# Altium footprint library BQ24617RGET.PcbLib: 1 footprints
Each footprint in its own frame and in the unit in brackets; x right, y up, seen from the top. Pads: shape width x height; smd on the part's side, far side on the other; paste and mask are expansions set on the pad; w line width, h text height; cw(c..) or ccw(c..) is an arc to the next point about the centre after c.
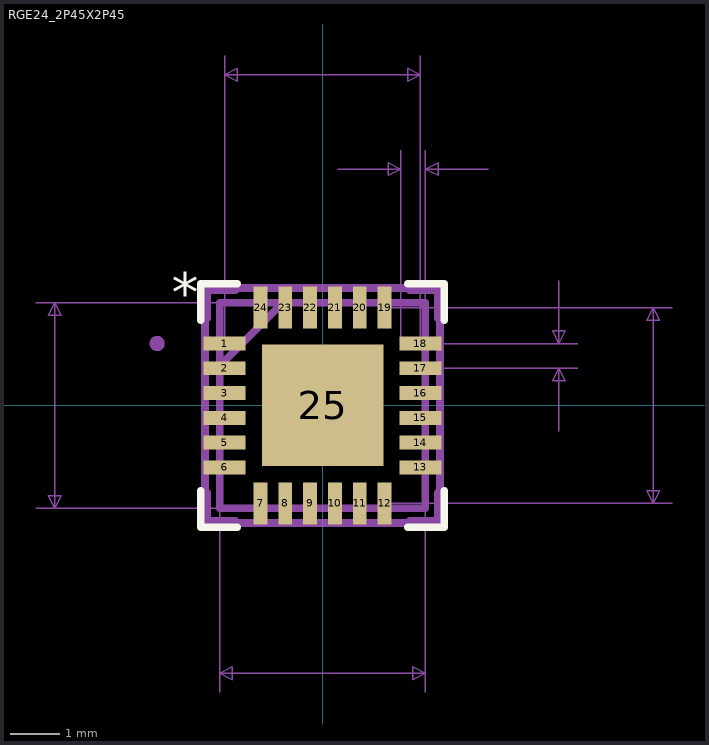
[diagram p0: the footprint, top view; thin cyan lines are the x and y axes]

## RGE24_2P45X2P45 [mm]
pads (25):
  rect 0.85x0.28 smd: 1(-1.975,1.25) 2(-1.975,0.75) 3(-1.975,0.25) 4(-1.975,-0.25) 5(-1.975,-0.75) 6(-1.975,-1.25) 13(1.975,-1.25) 14(1.975,-0.75) 15(1.975,-0.25) 16(1.975,0.25) 17(1.975,0.75) 18(1.975,1.25)
  rect 0.28x0.85 smd: 7(-1.25,-1.975) 8(-0.75,-1.975) 9(-0.25,-1.975) 10(0.25,-1.975) 11(0.75,-1.975) 12(1.25,-1.975) 19(1.25,1.975) 20(0.75,1.975) 21(0.25,1.975) 22(-0.25,1.975) 23(-0.75,1.975) 24(-1.25,1.975)
  rect 2.45x2.45 smd: 25(0,0)
Top Overlay:
  lines w0.152: -2.456,-1.718 -2.456,-2.456 -1.718,-2.456 ; -2.456,1.718 -2.456,2.456 -1.718,2.456 ; 1.718,-2.456 2.456,-2.456 2.456,-1.718 ; 1.718,2.456 2.456,2.456 2.456,1.718
  text "*" at -3.035,1.881 h0.79
Mechanical 1:
  lines w0.025: -2.075,0.805 -0.805,2.075 ; -2.075,-2.075 -2.075,2.075 2.075,2.075 2.075,-2.075 -2.075,-2.075 ; -2.075,-1.4 -2.075,-1.1 -2.075,-1.4 ; -2.075,-0.9 -2.075,-0.6 -2.075,-0.9 ; -2.075,-0.4 -2.075,-0.1 -2.075,-0.4 ; -2.075,0.1 -2.075,0.4 -2.075,0.1 ; -2.075,0.6 -2.075,0.9 -2.075,0.6 ; -2.075,1.1 -2.075,1.4 -2.075,1.1 ; -1.4,-2.075 -1.1,-2.075 -1.4,-2.075 ; -1.4,2.075 -1.1,2.075 -1.4,2.075 ; -0.9,-2.075 -0.6,-2.075 -0.9,-2.075 ; -0.9,2.075 -0.6,2.075 -0.9,2.075 ; -0.4,-2.075 -0.1,-2.075 -0.4,-2.075 ; -0.4,2.075 -0.1,2.075 -0.4,2.075 ; 0.1,-2.075 0.4,-2.075 0.1,-2.075 ; 0.1,2.075 0.4,2.075 0.1,2.075 ; 0.6,-2.075 0.9,-2.075 0.6,-2.075 ; 0.6,2.075 0.9,2.075 0.6,2.075 ; 1.1,-2.075 1.4,-2.075 1.1,-2.075 ; 1.1,2.075 1.4,2.075 1.1,2.075 ; 2.075,-1.4 2.075,-1.1 2.075,-1.4 ; 2.075,-0.9 2.075,-0.6 2.075,-0.9 ; 2.075,-0.4 2.075,-0.1 2.075,-0.4 ; 2.075,0.1 2.075,0.4 2.075,0.1 ; 2.075,0.6 2.075,0.9 2.075,0.6 ; 2.075,1.1 2.075,1.4 2.075,1.1
  text "*" at -1.296,1.5 h0.79
Mechanical 16:
  circle w0.152: c-3.334,1.25 r0.076
  lines w0.025: -5.781,-2.075 2.075,-2.075 ; -5.781,2.075 2.075,2.075 2.075,-5.781 ; -2.075,-5.781 -2.075,2.075 ; -1.975,1.25 -1.975,7.051 ; 0.305,4.765 1.575,4.765 ; 1.25,-1.975 7.051,-1.975 ; 1.25,1.975 7.051,1.975 ; 1.575,1.25 1.575,5.146 ; 1.975,0.75 5.146,0.75 ; 1.975,7.051 1.975,1.25 5.146,1.25 ; 2.075,1.25 2.075,5.146 ; 3.345,4.765 2.075,4.765 ; 4.765,-0.52 4.765,0.75 ; 4.765,2.52 4.765,1.25 ; -5.4,-2.075 -5.273,-1.821 -5.527,-1.821 -5.4,-2.075 ; -5.4,-2.075 -5.4,2.075 ; -5.4,2.075 -5.273,1.821 -5.527,1.821 -5.4,2.075 ; -2.075,-5.4 -1.821,-5.527 -1.821,-5.273 -2.075,-5.4 ; -2.075,-5.4 2.075,-5.4 ; -1.975,6.67 -1.721,6.543 -1.721,6.797 -1.975,6.67 ; -1.975,6.67 1.975,6.67 ; 1.575,4.765 1.321,4.638 1.321,4.892 1.575,4.765 ; 1.975,6.67 1.721,6.543 1.721,6.797 1.975,6.67 ; 2.075,-5.4 1.821,-5.527 1.821,-5.273 2.075,-5.4 ; 2.075,4.765 2.329,4.638 2.329,4.892 2.075,4.765 ; 4.765,0.75 4.892,0.496 4.638,0.496 4.765,0.75 ; 4.765,1.25 4.892,1.504 4.638,1.504 4.765,1.25 ; 6.67,-1.975 6.797,-1.721 6.543,-1.721 6.67,-1.975 ; 6.67,-1.975 6.67,1.975 ; 6.67,1.975 6.797,1.721 6.543,1.721 6.67,1.975
  lines w0.152: -2.075,0.805 -0.805,2.075 ; -2.369,-1.758 -2.369,1.758 -2.329,1.758 -2.329,2.329 -1.758,2.329 -1.758,2.369 1.758,2.369 1.758,2.329 2.329,2.329 2.329,1.758 2.369,1.758 2.369,-1.758 2.329,-1.758 2.329,-2.329 1.758,-2.329 1.758,-2.369 -1.758,-2.369 -1.758,-2.329 -2.329,-2.329 -2.329,-1.758 -2.369,-1.758 ; -2.075,-2.075 2.075,-2.075 2.075,2.075 -2.075,2.075 -2.075,-2.075
  text "0.163in/4.15mm" at 0,-5.908 h0.4
  text "0.163in/4.15mm" at -5.908,0 h0.4
  text "0.156in/3.95mm" at 7.178,0 h0.4
  text "0.156in/3.95mm" at 0,7.178 h0.4
  text "0.02in/0.5mm" at 1.825,5.273 h0.4
  text "0.02in/0.5mm" at 5.273,1 h0.4
  text "Alt 2 Padstyle: OX90Y60D30P" at 0,-13.401 h0.79
  text "Alt 1 Padstyle: OX60Y90D30P" at 0,-11.877 h0.79
  text "Via Padstyle: EX20Y20D10P" at 0,-10.353 h0.79
  text "Heat Tab Padstyle: RX96p46Y96p46D0T" at 0,-8.829 h0.79
  text "Default Padstyle: RX11p02Y33p46D0T" at 0,-7.305 h0.79